# Altium integrated library Fuse.IntLib: 4 symbols
Pins are listed as number, name and electrical type; pins without a type are passive.

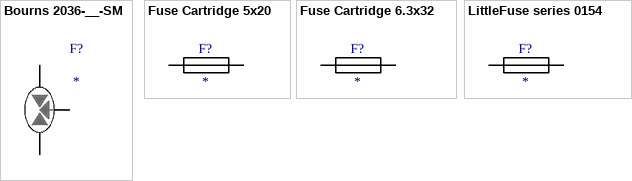
[diagram p0: symbols Bourns 2036-__-SM to LittleFuse series 0154]

## Bourns 2036-__-SM
designator F?
Gas Discharge Tube Bourns 2036; Value: *
footprint Bourns 2036 (Gas discharge Tube 5.0x5.0 Height 7.5)
pins: 1, 2, 3

## Fuse Cartridge 5x20
designator F?
Fuse Cartridge 5x20; Value: *
footprint Fuse Cartridge 5x20 Shurter
pins: 1, 2

## Fuse Cartridge 6.3x32
designator F?
Fuse Cartridge 6.3x32; Value: *
footprint Fuse Cartridge 6.3x32 SHH3N
pins: 1, 2, 3, 4

## LittleFuse series 0154
designator F?
LittleFuse series 0154 C10X5.0 H3.8; Value: *
footprint LittleFuse series 0154 C10X5.0 H3.8 (Surface Mount Fuses  NANO2® > 154 OMNI-BLOK® Fuse and Holder Combination)
pins: 1, 2